# Altium footprint library BW1098OBC.PcbLib: 5 footprints
Each footprint in its own frame and in the unit in brackets; x right, y up, seen from the top. Pads: shape width x height; smd on the part's side, far side on the other; paste and mask are expansions set on the pad; w line width, h text height; cw(c..) or ccw(c..) is an arc to the next point about the centre after c.
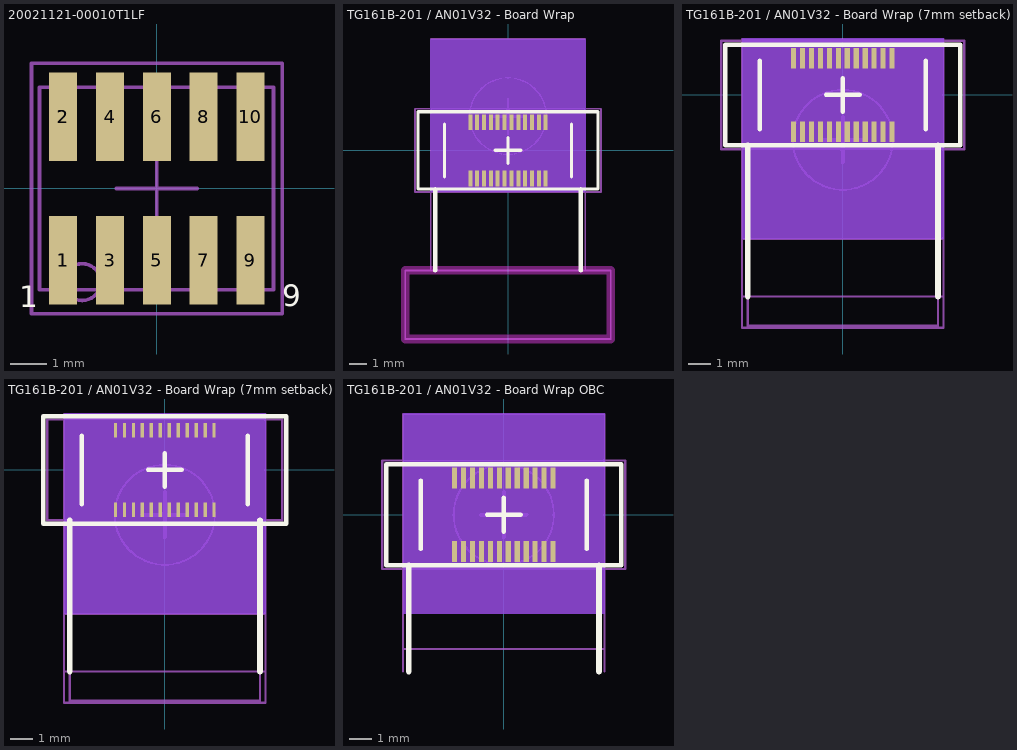
[diagram p0: the footprints below, top view; thin cyan lines are the x and y axes]

## 20021121-00010T1LF [mm] "Connector Header Surface Mount 10 position 0.050\" (1.27mm)   Contact length: 0.120\" (3.05mm)"
height 4
pads (12):
  rect 0.76x2.4 smd: 1(-2.54,-1.95) 1(-2.54,-1.95) 2(-2.54,1.95) 2(-2.54,1.95) 3(-1.27,-1.95) 4(-1.27,1.95) 5(0,-1.95) 6(0,1.95) 7(1.27,-1.95) 8(1.27,1.95) 9(2.54,-1.95) 10(2.54,1.95)
Top Overlay:
  text "1" at -3.737,-3.429 h1
  text "9" at 3.4,-3.4 h1
Top Assembly:
  lines w0.1: -3.4,-3.4 3.4,-3.4 3.4,3.4 -3.4,3.4 -3.4,-3.4 ; -1.524,-2.54 ccw(c-2.024,-2.54) -1.524,-2.54
  text "'.Designator'" at 0,0 h1
Top Courtyard:
  lines w0.05: -3.4,-3.4 -3.4,3.4 3.4,3.4 3.4,-3.4 -3.4,-3.4
  lines w0.1: -1.1,0 0,0 ; 0,-1.1 0,0 ; 0,1.1 0,0 ; 1.1,0 0,0
Top Component Outline (Mech31):
  lines w0.1: -3.184,-2.75 -3.184,2.75 3.166,2.75 3.166,-2.75 -3.184,-2.75
3D body "20021121-00010T1LF.stp": height 4.55, standoff 0, extent -3.184,-2.75 3.166,2.75

## TG161B-201 / AN01V32 - Board Wrap [mm] "SMT connector: BBR43-24KB533"
pads (24):
  rect 0.23x0.92 smd mask+0.05: 1(2.2,-1.64) 2(1.8,-1.64) 3(1.4,-1.64) 4(1,-1.64) 5(0.6,-1.64) 6(0.2,-1.64) 7(-0.2,-1.64) 8(-0.6,-1.64) 9(-1,-1.64) 10(-1.4,-1.64) 11(-1.8,-1.64) 12(-2.2,-1.64) 13(-2.2,1.64) 14(-1.8,1.64) 15(-1.4,1.64) 16(-1,1.64) 17(-0.6,1.64) 18(-0.2,1.64) 19(0.2,1.64) 20(0.6,1.64) 21(1,1.64) 22(1.4,1.64) 23(1.8,1.64) 24(2.2,1.64)
Bottom Layer keep-out:
  region: 4.5,6.5 -4.5,6.5 -4.5,-2.425 4.5,-2.425
Top Overlay:
  lines w0.2: -3.705,-1.53 -3.705,1.53 ; -0.75,0 0,0 ; 0,-0.75 0,0 ; 0,0.75 0,0 ; 0.75,0 0,0 ; 3.705,-1.53 3.705,1.53 ; -5.25,-2.25 5.25,-2.25 5.25,2.25 -5.25,2.25 -5.25,-2.25
  lines w0.25: -4.25,-7 -4.25,-2.25 ; 4.25,-7 4.25,-2.25
Bottom Overlay:
  circle w0.1: c0,2 r2.236
  lines w0.2: -1,2 1,2 ; 0,1 0,3
  lines w0.25: -4.25,-7 -4.25,-2.25 ; 4.25,-7 4.25,-2.25 ; -4.25,-2.25 4.25,-2.25 ; -4.25,-2.25 -4.25,6.25 4.25,6.25 4.25,-2.25
Keep-Out Layer:
  region: 5.8,-6.9
  lines w0.5: -6,-11 6,-11 6,-7 -6,-7 -6,-11
Board:
  lines w0.1: -6,-11 -6,-7 -4.5,-7 6,-7 6,-11 -6,-11
Top Assembly:
  lines w0.1: -4.5,-7 -4.5,-2.425 ; 4.5,-7 4.5,-2.425 ; -5.425,-2.425 5.425,-2.425 5.425,2.425 -5.425,2.425 -5.425,-2.425
  text "'.Designator'" at 0,0 h1
Bottom Assembly:
  circle w0.1: c0,2 r2.236
  lines w0.1: -4.5,-7 -4.5,6.5 4.5,6.5 4.5,-7
  lines w0.2: -1,2 1,2 ; 0,1 0,3
Top Courtyard:
  lines w0.05: -4.5,-7 -4.5,-2.425 ; -0.8,0 0.8,0 ; 0,-0.8 0,0.8 ; 4.5,-7 4.5,-2.425 ; -5.425,-2.425 5.425,-2.425 5.425,2.425 -5.425,2.425 -5.425,-2.425
Bottom Courtyard:
  lines w0.05: -4.5,-7 -4.5,6.5 4.5,6.5 4.5,-7
3D body: height 3.4, standoff 1.7, extent -3.25,-1.247 3.25,5.247
3D body: height 1.7, standoff 0, extent -4.25,-2.25 4.25,6.25
3D body: height 0.94, standoff 0.84, extent -5.25,-2.25 5.25,2.25
3D body: height 0.34, standoff 0.24, extent -4.25,-8.31 4.25,-2.25
3D body: height 0.94, standoff 0.84, extent -4.25,-8.31 4.25,-2.25
3D body: height 0.94, standoff -1.94, extent -4.25,-8.41 4.25,-8.31
3D body: height 4.4, standoff 1.7, extent -2.75,-0.75 2.75,4.75

## TG161B-201 / AN01V32 - Board Wrap (7mm setback) [mm] "SMT connector: BBR43-24KB533, 7mm camera setback"
pads (24):
  rect 0.23x0.92 smd mask+0.05: 1(2.2,-1.64) 2(1.8,-1.64) 3(1.4,-1.64) 4(1,-1.64) 5(0.6,-1.64) 6(0.2,-1.64) 7(-0.2,-1.64) 8(-0.6,-1.64) 9(-1,-1.64) 10(-1.4,-1.64) 11(-1.8,-1.64) 12(-2.2,-1.64) 13(-2.2,1.64) 14(-1.8,1.64) 15(-1.4,1.64) 16(-1,1.64) 17(-0.6,1.64) 18(-0.2,1.64) 19(0.2,1.64) 20(0.6,1.64) 21(1,1.64) 22(1.4,1.64) 23(1.8,1.64) 24(2.2,1.64)
Bottom Layer keep-out:
  region: 4.5,2.5 -4.5,2.5 -4.5,-6.425 4.5,-6.425
Top Overlay:
  lines w0.2: -3.705,-1.53 -3.705,1.53 ; -0.75,0 0,0 ; 0,-0.75 0,0 ; 0,0.75 0,0 ; 0.75,0 0,0 ; 3.705,-1.53 3.705,1.53 ; -5.25,-2.25 -5.25,2.25 5.25,2.25 5.25,-2.25 -5.25,-2.25
  lines w0.25: -4.25,-9 -4.25,-2.25 ; 4.25,-9 4.25,-2.25
Bottom Overlay:
  circle w0.1: c0,-2 r2.236
  lines w0.2: -1,-2 1,-2 ; 0,-3 0,-1
  lines w0.25: -4.25,-9 -4.25,-6.25 ; 4.25,-9 4.25,-6.25 ; -4.25,-6.25 -4.25,2.25 4.25,2.25 4.25,-6.25 ; -4.25,-6.25 4.25,-6.25
Keep-Out Layer:
  region: 5.8,-10.9
Top Assembly:
  lines w0.1: -4.5,-2.425 -4.5,-9 ; 4.5,-2.425 4.5,-9 ; -4.5,-9 4.5,-9 ; -4.5,-9 -4.5,-10.4 4.5,-10.4 4.5,-9 ; 4.5,-9 4.5,-9 ; -5.425,-2.425 -5.425,2.425 5.425,2.425 5.425,-2.425 -5.425,-2.425
  text "Flex edge" at -0.9,-10.3 h0.5
  text "Board edge" at -1.1,-8.9 h0.5
  text "'.Designator'" at 0,0 h1
Bottom Assembly:
  circle w0.1: c0,-2 r2.236
  lines w0.1: -4.5,-9 -4.5,-10.4 4.5,-10.4 4.5,-9 ; -4.5,-9 -4.5,2.5 4.5,2.5 4.5,-9 ; -4.5,-9 4.5,-9
  lines w0.2: -1,-2 1,-2 ; 0,-3 0,-1
  text "Flex edge" at 0.9,-10.3 h0.5
  text "Board edge" at 1.1,-8.9 h0.5
Top Courtyard:
  lines w0.05: -4.5,-9 -4.5,-2.425 ; -0.8,0 0.8,0 ; 0,-0.8 0,0.8 ; 4.5,-9 4.5,-2.425 ; -5.425,-2.425 -5.425,2.425 5.425,2.425 5.425,-2.425 -5.425,-2.425
Bottom Courtyard:
  lines w0.05: -4.5,-9 -4.5,2.5 4.5,2.5 4.5,-9
Top Component Outline (Mech31):
  lines w0.1: -5.25,-2.25 -4.25,-2.25 -4.25,-10.31 4.25,-10.31 4.25,-2.25 5.25,-2.25 5.25,2.25 -5.25,2.25 -5.25,-2.25
Bottom Component Outline (Mech32):
  lines w0.1: -4.5,-6.425 4.5,-6.425 4.5,2.5 -4.5,2.5 -4.5,-6.425
3D body: height 4.4, standoff 1.7, extent -2.75,-4.75 2.75,0.75
3D body: height 0.94, standoff -1.94, extent -4.25,-10.41 4.25,-10.31
3D body: height 0.34, standoff 0.24, extent -4.25,-10.31 4.25,-6.25
3D body: height 1.7, standoff 0, extent -4.25,-6.25 4.25,2.25
3D body: height 3.4, standoff 1.7, extent -3.25,-5.247 3.25,1.247
3D body: height 0.94, standoff 0.84, extent -5.25,-2.25 5.25,2.25
3D body: height 0.94, standoff 0.84, extent -4.25,-10.31 4.25,-2.25

## TG161B-201 / AN01V32 - Board Wrap (7mm setback) MinPads [mm] "SMT connector: BBR43-24KB533, 7mm camera setback"
pads (24):
  rect 0.15x0.65 smd mask+0.05: 1(2.2,-1.775) 2(1.8,-1.775) 3(1.4,-1.775) 4(1,-1.775) 5(0.6,-1.775) 6(0.2,-1.775) 7(-0.2,-1.775) 8(-0.6,-1.775) 9(-1,-1.775) 10(-1.4,-1.775) 11(-1.8,-1.775) 12(-2.2,-1.775) 13(-2.2,1.775) 14(-1.8,1.775) 15(-1.4,1.775) 16(-1,1.775) 17(-0.6,1.775) 18(-0.2,1.775) 19(0.2,1.775) 20(0.6,1.775) 21(1,1.775) 22(1.4,1.775) 23(1.8,1.775) 24(2.2,1.775)
Bottom Layer keep-out:
  region: 4.5,2.5 -4.5,2.5 -4.5,-6.425 4.5,-6.425
Top Overlay:
  lines w0.2: -3.705,-1.53 -3.705,1.53 ; -0.75,0 0,0 ; 0,-0.75 0,0 ; 0,0.75 0,0 ; 0.75,0 0,0 ; 3.705,-1.53 3.705,1.53 ; -5.425,-2.4 -5.425,2.4 5.425,2.4 5.425,-2.4 -5.425,-2.4
  lines w0.25: -4.25,-9 -4.25,-2.25 ; 4.25,-9 4.25,-2.25
Bottom Overlay:
  circle w0.1: c0,-2 r2.236
  lines w0.2: -1,-2 1,-2 ; 0,-3 0,-1
  lines w0.25: -4.25,-9 -4.25,-6.25 ; 4.25,-9 4.25,-6.25 ; -4.25,-6.25 -4.25,2.25 4.25,2.25 4.25,-6.25 ; -4.25,-6.25 4.25,-6.25
Keep-Out Layer:
  region: 5.8,-10.9
Top Assembly:
  lines w0.1: -4.5,-2.425 -4.5,-9 ; 4.5,-2.425 4.5,-9 ; -4.5,-9 4.5,-9 ; -4.5,-9 -4.5,-10.4 4.5,-10.4 4.5,-9 ; 4.5,-9 4.5,-9 ; -5.425,-2.425 -5.425,2.425 5.425,2.425 5.425,-2.425 -5.425,-2.425
  text "Flex edge" at -0.9,-10.3 h0.5
  text "Board edge" at -1.1,-8.9 h0.5
  text "'.Designator'" at 0,0 h1
Bottom Assembly:
  circle w0.1: c0,-2 r2.236
  lines w0.1: -4.5,-9 -4.5,-10.4 4.5,-10.4 4.5,-9 ; -4.5,-9 -4.5,2.5 4.5,2.5 4.5,-9 ; -4.5,-9 4.5,-9
  lines w0.2: -1,-2 1,-2 ; 0,-3 0,-1
  text "Flex edge" at 0.9,-10.3 h0.5
  text "Board edge" at 1.1,-8.9 h0.5
Top Courtyard:
  lines w0.05: -4.5,-9 -4.5,-2.425 ; -0.8,0 0.8,0 ; 0,-0.8 0,0.8 ; 4.5,-9 4.5,-2.425 ; -5.425,-2.425 -5.425,2.425 5.425,2.425 5.425,-2.425 -5.425,-2.425
Bottom Courtyard:
  lines w0.05: -4.5,-9 -4.5,2.5 4.5,2.5 4.5,-9
Top Component Outline (Mech31):
  lines w0.1: -5.25,-2.25 -4.25,-2.25 -4.25,-10.31 4.25,-10.31 4.25,-2.25 5.25,-2.25 5.25,2.25 -5.25,2.25 -5.25,-2.25
Bottom Component Outline (Mech32):
  lines w0.1: -4.5,-6.425 4.5,-6.425 4.5,2.5 -4.5,2.5 -4.5,-6.425
3D body: height 4.4, standoff 1.7, extent -2.75,-4.75 2.75,0.75
3D body: height 0.94, standoff -1.94, extent -4.25,-10.41 4.25,-10.31
3D body: height 0.34, standoff 0.24, extent -4.25,-10.31 4.25,-6.25
3D body: height 1.7, standoff 0, extent -4.25,-6.25 4.25,2.25
3D body: height 3.4, standoff 1.7, extent -3.25,-5.247 3.25,1.247
3D body: height 0.94, standoff 0.84, extent -5.25,-2.25 5.25,2.25
3D body: height 0.94, standoff 0.84, extent -4.25,-10.31 4.25,-2.25

## TG161B-201 / AN01V32 - Board Wrap OBC [mm] "SMT connector: BBR43-24KB533"
pads (24):
  rect 0.23x0.92 smd mask+0.05: 1(2.2,-1.64) 2(1.8,-1.64) 3(1.4,-1.64) 4(1,-1.64) 5(0.6,-1.64) 6(0.2,-1.64) 7(-0.2,-1.64) 8(-0.6,-1.64) 9(-1,-1.64) 10(-1.4,-1.64) 11(-1.8,-1.64) 12(-2.2,-1.64) 13(-2.2,1.64) 14(-1.8,1.64) 15(-1.4,1.64) 16(-1,1.64) 17(-0.6,1.64) 18(-0.2,1.64) 19(0.2,1.64) 20(0.6,1.64) 21(1,1.64) 22(1.4,1.64) 23(1.8,1.64) 24(2.2,1.64)
Bottom Layer keep-out:
  region: 4.5,4.5 -4.5,4.5 -4.5,-4.425 4.5,-4.425
Top Overlay:
  lines w0.2: -3.705,-1.53 -3.705,1.53 ; -0.75,0 0,0 ; 0,-0.75 0,0 ; 0,0.75 0,0 ; 0.75,0 0,0 ; 3.705,-1.53 3.705,1.53 ; -5.25,-2.25 -5.25,2.25 5.25,2.25 5.25,-2.25 -5.25,-2.25
  lines w0.25: -4.25,-7 -4.25,-2.25 ; 4.25,-7 4.25,-2.25
Bottom Overlay:
  circle w0.1: c0,0 r2.236
  lines w0.2: -1,0 1,0 ; 0,-1 0,1
  lines w0.25: -4.25,-7 -4.25,-4.25 ; 4.25,-7 4.25,-4.25 ; -4.25,-4.25 -4.25,4.25 4.25,4.25 4.25,-4.25 ; -4.25,-4.25 4.25,-4.25
Keep-Out Layer:
  region: 5.8,-8.9
Board:
  lines w0.1: -4.5,-6 4.5,-6
Top Assembly:
  lines w0.1: -4.5,-7 -4.5,-2.425 ; 4.5,-7 4.5,-2.425 ; -5.425,-2.425 -5.425,2.425 5.425,2.425 5.425,-2.425 -5.425,-2.425
  text "'.Designator'" at 0,0 h1
Bottom Assembly:
  circle w0.1: c0,0 r2.236
  lines w0.1: -4.5,-7 -4.5,4.5 4.5,4.5 4.5,-7
  lines w0.2: -1,0 1,0 ; 0,-1 0,1
Top Courtyard:
  lines w0.05: -4.5,-7 -4.5,-2.425 ; -0.8,0 0.8,0 ; 4.5,-7 4.5,-2.425 ; -5.425,-2.425 -5.425,2.425 5.425,2.425 5.425,-2.425 -5.425,-2.425
Bottom Courtyard:
  lines w0.05: -4.5,-7 -4.5,4.5 4.5,4.5 4.5,-7
3D body: height 4.4, standoff 1.7, extent -2.75,-2.75 2.75,2.75
3D body: height 0.94, standoff -1.94, extent -4.25,-9.41 4.25,-9.31
3D body: height 0.34, standoff 0.24, extent -4.25,-9.31 4.25,-4.25
3D body: height 1.7, standoff 0, extent -4.25,-4.25 4.25,4.25
3D body: height 3.4, standoff 1.7, extent -3.25,-3.247 3.25,3.247
3D body: height 0.94, standoff 0.84, extent -5.25,-2.25 5.25,2.25
3D body: height 0.94, standoff 0.84, extent -4.25,-9.31 4.25,-2.25